# EAGLE library part MIKROBUS_SIL (library lieven)
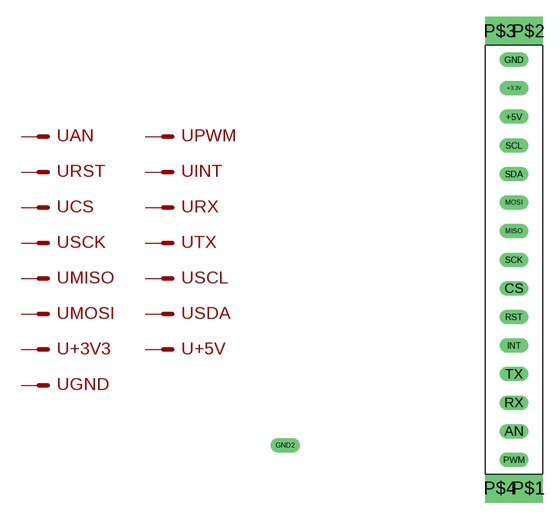
[diagram p3: symbol with the pads of MIKROBUS_SIL; footprint MIKROBUS_SIL]

Designator prefix -; gates AN=M RST=M CS=M SCK=M MISO=M MOSI=M +3V3=M GND=M PWM=M INT=M RX=M TX=M SCL=M SDA=M +5V=M

## MIKROBUS_SILLMR  [MIKROBUS_SIL]
+3.3V  +3V3:S  pas
+5V  +5V:S  pas
AN  AN:S  pas
CS  CS:S  pas
GND  GND:S  pas
INT  INT:S  pas
MISO  MISO:S  pas
MOSI  MOSI:S  pas
PWM  PWM:S  pas
RST  RST:S  pas
RX  RX:S  pas
SCK  SCK:S  pas
SCL  SCL:S  pas
SDA  SDA:S  pas
TX  TX:S  pas

## Footprint MIKROBUS_SIL (pad centres in mm)
drill 0.8 long: +3.3V 0,15.24; +5V 0,12.7; AN 0,-15.24; CS 0,-2.54; GND 0,17.78; GND2 -20.32,-16.51; INT 0,-7.62; MISO 0,2.54; MOSI 0,5.08; PWM 0,-17.78; RST 0,-5.08; RX 0,-12.7; SCK 0,0; SCL 0,10.16; SDA 0,7.62; TX 0,-10.16
drill 0.8 pad 2.54 square: P$1 1.27,-20.32; P$2 1.27,20.32; P$3 -1.27,20.32; P$4 -1.27,-20.32